# EAGLE library part LM3402 (library seb)
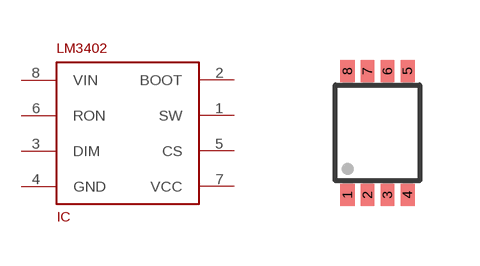
[diagram p25: symbol with the pads of VSSOP8; footprint VSSOP8]

Designator prefix IC

## LM3402  [VSSOP8]
1  SW
2  BOOT
3  DIM
4  GND
5  CS
6  RON
7  VCC
8  VIN

## Footprint VSSOP8 (pad centres in mm)
smd 0.35 x 0.55: 1 -0.75,-1.55; 2 -0.25,-1.55; 3 0.25,-1.55; 4 0.75,-1.55; 5 0.75,1.55; 6 0.25,1.55; 7 -0.25,1.55; 8 -0.75,1.55